# EAGLE library part ADC141S626 (library MarkIIEaglelbr)
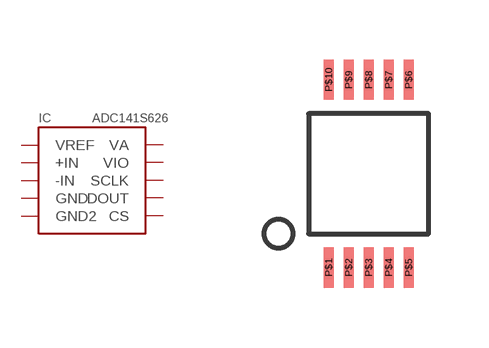
[diagram p4: symbol with the pads of 10-VSSOP; footprint 10-VSSOP]

Designator prefix IC

## ADC141S626  [10-VSSOP]
P$1  VREF
P$2  +IN
P$3  -IN
P$4  GND
P$5  GND2
P$6  CS
P$7  DOUT
P$8  SCLK
P$9  VIO
P$10  VA

## Footprint 10-VSSOP (pad centres in mm)
smd 0.25 x 1: P$1 -1,-2.35; P$2 -0.5,-2.35; P$3 0,-2.35; P$4 0.5,-2.35; P$5 1,-2.35; P$6 1,2.35; P$7 0.5,2.35; P$8 0,2.35; P$9 -0.5,2.35; P$10 -1,2.35